# Altium footprint library tm4c123gh.PcbLib: 11 footprints
Each footprint in its own frame and in the unit in brackets; x right, y up, seen from the top. Pads: shape width x height; smd on the part's side, far side on the other; paste and mask are expansions set on the pad; w line width, h text height; cw(c..) or ccw(c..) is an arc to the next point about the centre after c.
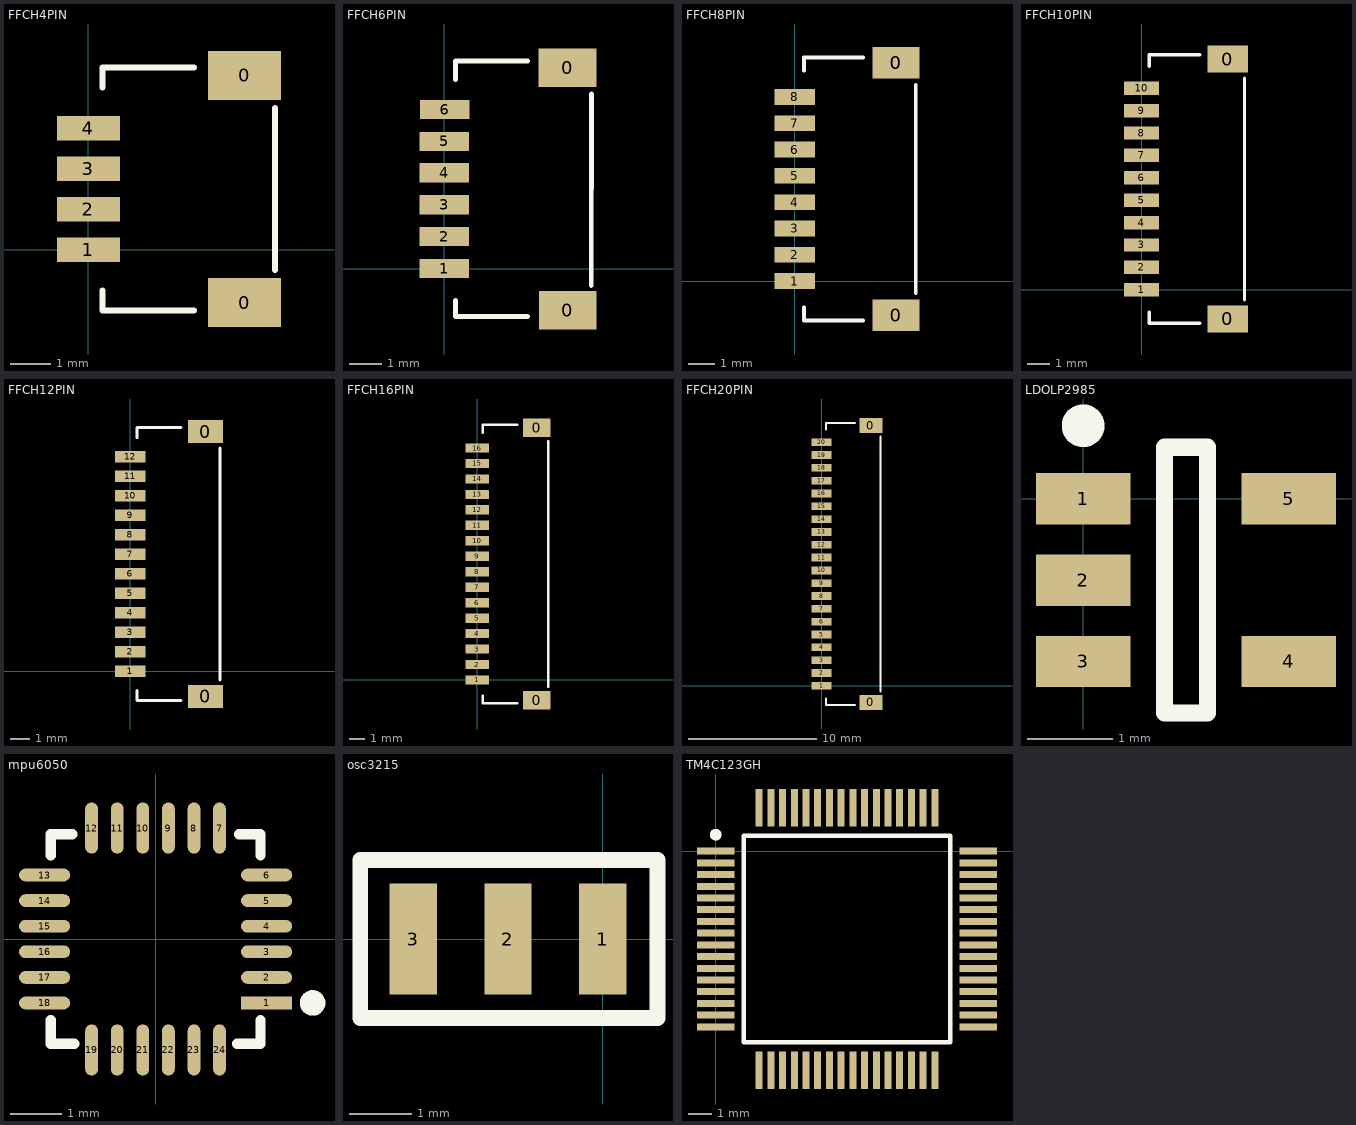
[diagram p0: the footprints below, top view; thin cyan lines are the x and y axes]

## FFCH4PIN [mm]
pads (6):
  rect 1.8x1.2 smd paste+0 mask+0.051: 0(3.85,-1.3) 0(3.85,4.3)
  rect 1.55x0.6 smd paste+0 mask+0.051: 1(0,0) 2(0,1) 3(0,2) 4(0,3)
Top Overlay:
  lines w0.15: 0.35,-1 0.35,-1.5 2.6,-1.5 ; 0.35,4 0.35,4.5 2.6,4.5 ; 4.6,-0.5 4.6,3.5

## FFCH6PIN [mm]
pads (8):
  rect 1.8x1.2 smd paste+0 mask+0.051: 0(3.849,6.28) 0(3.85,-1.3)
  rect 1.55x0.6 smd paste+0 mask+0.051: 1(0,0) 2(0,1) 3(0,2) 4(0,3) 5(0,3.979) 6(0.015,4.973)
Top Overlay:
  lines w0.15: 0.35,-1 0.35,-1.5 2.6,-1.5 ; 0.35,5.91 0.35,6.493 2.6,6.493 ; 4.593,-0.525 4.594,5.464

## FFCH8PIN [mm]
pads (10):
  rect 1.8x1.2 smd paste+0 mask+0.051: 0(3.85,-1.3) 0(3.85,8.3)
  rect 1.55x0.6 smd paste+0 mask+0.051: 1(0,0) 2(0,1) 3(0,2) 4(0,3) 5(0,4) 6(0,5) 7(0,6) 8(0,7)
Top Overlay:
  lines w0.15: 0.35,-1 0.35,-1.5 2.6,-1.5 ; 0.35,8 0.35,8.5 2.6,8.5 ; 4.6,-0.45 4.6,7.45

## FFCH10PIN [mm]
pads (12):
  rect 1.8x1.2 smd paste+0 mask+0.051: 0(3.85,-1.3) 0(3.85,10.3)
  rect 1.55x0.6 smd paste+0 mask+0.051: 1(0,0) 2(0,1) 3(0,2) 4(0,3) 5(0,4) 6(0,5) 7(0,6) 8(0,7) 9(0,8) 10(0,9)
Top Overlay:
  lines w0.15: 0.35,-1 0.35,-1.5 2.6,-1.5 ; 0.35,9.98 0.35,10.5 2.6,10.5 ; 4.6,-0.45 4.6,9.45

## FFCH12PIN [mm]
pads (14):
  rect 1.8x1.2 smd paste+0 mask+0.051: 0(3.85,-1.3) 0(3.85,12.3)
  rect 1.55x0.6 smd paste+0 mask+0.051: 1(0,0) 2(0,1) 3(0,2) 4(0,3) 5(0,4) 6(0,5) 7(0,6) 8(0,7) 9(0,8) 10(0,9) 11(0,10) 12(0,11)
Top Overlay:
  lines w0.15: 0.35,-1 0.35,-1.5 2.6,-1.5 ; 0.35,11.98 0.35,12.5 2.6,12.5 ; 4.6,-0.45 4.6,11.45

## FFCH16PIN [mm]
pads (18):
  rect 1.8x1.2 smd paste+0 mask+0.051: 0(3.85,-1.3) 0(3.85,16.3)
  rect 1.55x0.6 smd paste+0 mask+0.051: 1(0,0) 2(0,1) 3(0,2) 4(0,3) 5(0,4) 6(0,5) 7(0,6) 8(0,7) 9(0,8) 10(0,9) 11(0,10) 12(0,11) 13(0,12) 14(0,13) 15(0,14) 16(0,15)
Top Overlay:
  lines w0.15: 0.35,-1 0.35,-1.5 2.6,-1.5 ; 0.35,15.98 0.35,16.5 2.6,16.5 ; 4.6,-0.45 4.6,15.45

## FFCH20PIN [mm]
pads (22):
  rect 1.8x1.2 smd paste+0 mask+0.051: 0(3.85,-1.3) 0(3.85,20.3)
  rect 1.55x0.6 smd paste+0 mask+0.051: 1(0,0) 2(0,1) 3(0,2) 4(0,3) 5(0,4) 6(0,5) 7(0,6) 8(0,7) 9(0,8) 10(0,9) 11(0,10) 12(0,11) 13(0,12) 14(0,13) 15(0,14) 16(0,15) 17(0,16) 18(0,17) 19(0,18) 20(0,19)
Top Overlay:
  lines w0.15: 0.35,-1 0.35,-1.5 2.6,-1.5 ; 0.35,19.98 0.35,20.5 2.6,20.5 ; 4.6,-0.45 4.6,19.45

## LDOLP2985 [mm]
pads (5):
  rect 1.1x0.6 smd: 1(0,0) 2(0,-0.95) 3(0,-1.9) 4(2.4,-1.9) 5(2.4,0)
Top Overlay:
  circle w0.25: c0,0.85 r0.125
  lines w0.2: 0.95,-2.5 0.95,0.6 1.45,0.6 1.45,-2.5 0.95,-2.5

## mpu6050 [mm]
pads (24):
  rect 1x0.25 smd: 1(2.17,-1.25)
  oval 1x0.25 smd: 2(2.17,-0.75) 3(2.17,-0.25) 4(2.17,0.25) 5(2.17,0.75) 6(2.17,1.25) 13(-2.17,1.25) 14(-2.17,0.75) 15(-2.17,0.25) 16(-2.17,-0.25) 17(-2.17,-0.75) 18(-2.17,-1.25)
  oval 0.25x1 smd: 7(1.25,2.17) 8(0.75,2.17) 9(0.25,2.17) 10(-0.25,2.17) 11(-0.75,2.17) 12(-1.25,2.17) 19(-1.25,-2.17) 20(-0.75,-2.17) 21(-0.25,-2.17) 22(0.25,-2.17) 23(0.75,-2.17) 24(1.25,-2.17)
Top Overlay:
  circle w0.25: c3.07,-1.25 r0.125
  lines w0.2: -2.05,-1.59 -2.05,-2.05 -1.59,-2.05 ; -2.05,1.63 -2.05,2.05 -1.63,2.05 ; 1.59,-2.05 2.05,-2.05 2.05,-1.59 ; 1.63,2.05 2.05,2.05 2.05,1.63

## osc3215 [mil]
pads (3):
  rect 30x70 smd: 1(0,0) 2(-60,0) 3(-120,0)
Top Overlay:
  lines w10: -153.54,-50 34.65,-50 34.65,50 -153.54,50 -153.54,-50

## TM4C123GH [mm]
pads (64):
  rect 1.6x0.3 smd paste-0.025 mask+0.05: 1(0,0) 2(0,-0.5) 3(0,-1) 4(0,-1.5) 5(0,-2) 6(0,-2.5) 7(0,-3) 8(0,-3.5) 9(0,-4) 10(0,-4.5) 11(0,-5) 12(0,-5.5) 13(0,-6) 14(0,-6.5) 15(0,-7) 16(0,-7.5) 33(11.2,-7.5) 34(11.2,-7) 35(11.2,-6.5) 36(11.2,-6) 37(11.2,-5.5) 38(11.2,-5) 39(11.2,-4.5) 40(11.2,-4) 41(11.2,-3.5) 42(11.2,-3) 43(11.2,-2.5) 44(11.2,-2) 45(11.2,-1.5) 46(11.2,-1) 47(11.2,-0.5) 48(11.2,0)
  rect 0.3x1.6 smd paste-0.025 mask+0.05: 17(1.85,-9.35) 18(2.35,-9.35) 19(2.85,-9.35) 20(3.35,-9.35) 21(3.85,-9.35) 22(4.35,-9.35) 23(4.85,-9.35) 24(5.35,-9.35) 25(5.85,-9.35) 26(6.35,-9.35) 27(6.85,-9.35) 28(7.35,-9.35) 29(7.85,-9.35) 30(8.35,-9.35) 31(8.85,-9.35) 32(9.35,-9.35) 49(9.35,1.85) 50(8.85,1.85) 51(8.35,1.85) 52(7.85,1.85) 53(7.35,1.85) 54(6.85,1.85) 55(6.35,1.85) 56(5.85,1.85) 57(5.35,1.85) 58(4.85,1.85) 59(4.35,1.85) 60(3.85,1.85) 61(3.35,1.85) 62(2.85,1.85) 63(2.35,1.85) 64(1.85,1.85)
Top Overlay:
  circle w0.25: c0,0.7 r0.125
  lines w0.2: 1.2,-8.15 10,-8.15 10,0.65 1.2,0.65 1.2,-8.15